# EAGLE library part IC_AFE4400 (library akita)
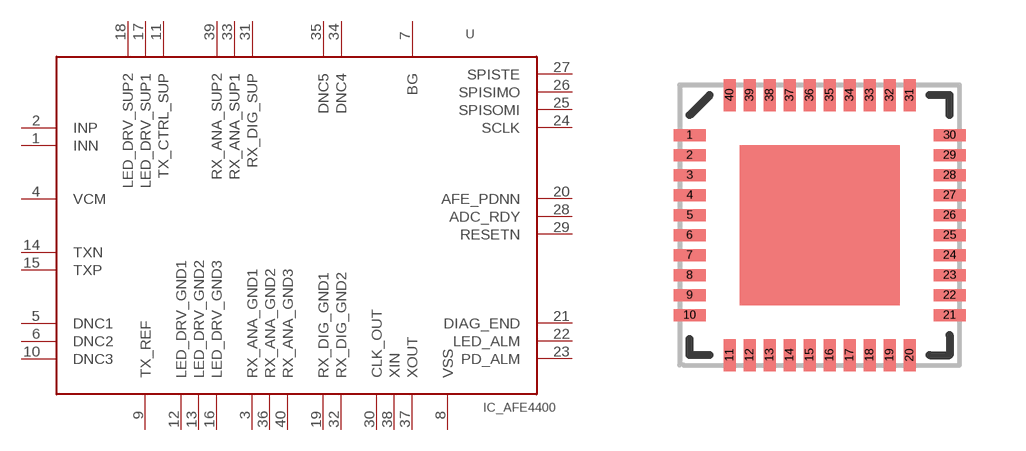
[diagram p57: symbol with the pads of QFN-40; footprint QFN-40]

Designator prefix U

## IC_AFE4400  [QFN-40]
1  INN
2  INP
3  RX_ANA_GND1
4  VCM
5  DNC1
6  DNC2
7  BG
8  VSS
9  TX_REF
10  DNC3
11  TX_CTRL_SUP
12  LED_DRV_GND1
13  LED_DRV_GND2
14  TXN
15  TXP
16  LED_DRV_GND3
17  LED_DRV_SUP1
18  LED_DRV_SUP2
19  RX_DIG_GND1
20  AFE_PDNN
21  DIAG_END
22  LED_ALM
23  PD_ALM
24  SCLK
25  SPISOMI
26  SPISIMO
27  SPISTE
28  ADC_RDY
29  RESETN
30  CLK_OUT
31  RX_DIG_SUP
32  RX_DIG_GND2
33  RX_ANA_SUP1
34  DNC4
35  DNC5
36  RX_ANA_GND2
37  XOUT
38  XIN
39  RX_ANA_SUP2
40  RX_ANA_GND3

## Footprint QFN-40 (pad centres in mm)
smd 0.8 x 0.3: 1 -3.25,2.25; 2 -3.25,1.75; 3 -3.25,1.25; 4 -3.25,0.75; 5 -3.25,0.25; 6 -3.25,-0.25; 7 -3.25,-0.75; 8 -3.25,-1.25; 9 -3.25,-1.75; 10 -3.25,-2.25; 21 3.25,-2.25; 22 3.25,-1.75; 23 3.25,-1.25; 24 3.25,-0.75; 25 3.25,-0.25; 26 3.25,0.25; 27 3.25,0.75; 28 3.25,1.25; 29 3.25,1.75; 30 3.25,2.25
smd 0.3 x 0.8: 11 -2.25,-3.25; 12 -1.75,-3.25; 13 -1.25,-3.25; 14 -0.75,-3.25; 15 -0.25,-3.25; 16 0.25,-3.25; 17 0.75,-3.25; 18 1.25,-3.25; 19 1.75,-3.25; 20 2.25,-3.25; 31 2.25,3.25; 32 1.75,3.25; 33 1.25,3.25; 34 0.75,3.25; 35 0.25,3.25; 36 -0.25,3.25; 37 -0.75,3.25; 38 -1.25,3.25; 39 -1.75,3.25; 40 -2.25,3.25